# EAGLE library part MSP430-4WJTAG (library 3m-custom)
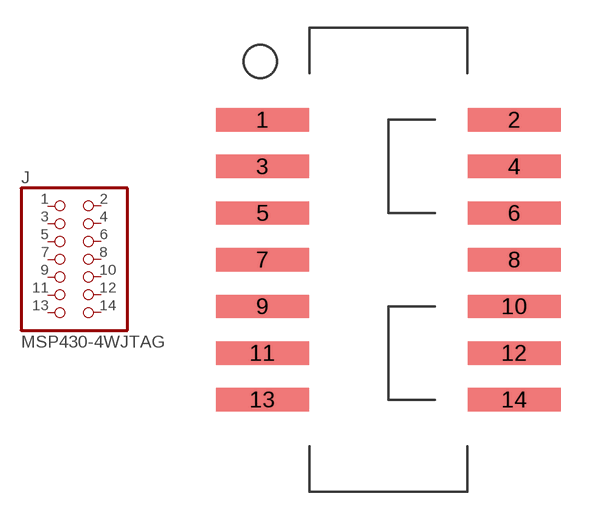
[diagram p1: symbol with the pads of 2514-6002UB; footprint 2514-6002UB]

Designator prefix J

## MSP430-4WJTAG  [2514-6002UB]
1  1  pas
2  2  pas
3  3  pas
4  4  pas
5  5  pas
6  6  pas
7  7  pas
8  8  pas
9  9  pas
10  10  pas
11  11  pas
12  12  pas
13  13  pas
14  14  pas

## Footprint 2514-6002UB (pad centres in mm)
smd 5.08 x 1.27: 1 -6.858,7.62; 2 6.858,7.62; 3 -6.858,5.08; 4 6.858,5.08; 5 -6.858,2.54; 6 6.858,2.54; 7 -6.858,0; 8 6.858,0; 9 -6.858,-2.54; 10 6.858,-2.54; 11 -6.858,-5.08; 12 6.858,-5.08; 13 -6.858,-7.62; 14 6.858,-7.62